# Altium schematic symbol library D_1608.SchLib: 1 symbol
Pins are listed as number, name and electrical type; pins without a type are passive.

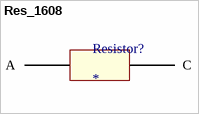
[diagram p0: symbol Res_1608]

## Res_1608
designator Resistor?
footprint PCBComponent_1
pins: A, C